# Altium schematic symbol library Interface_USB.SchLib: 132 symbols (part 2 of 2)
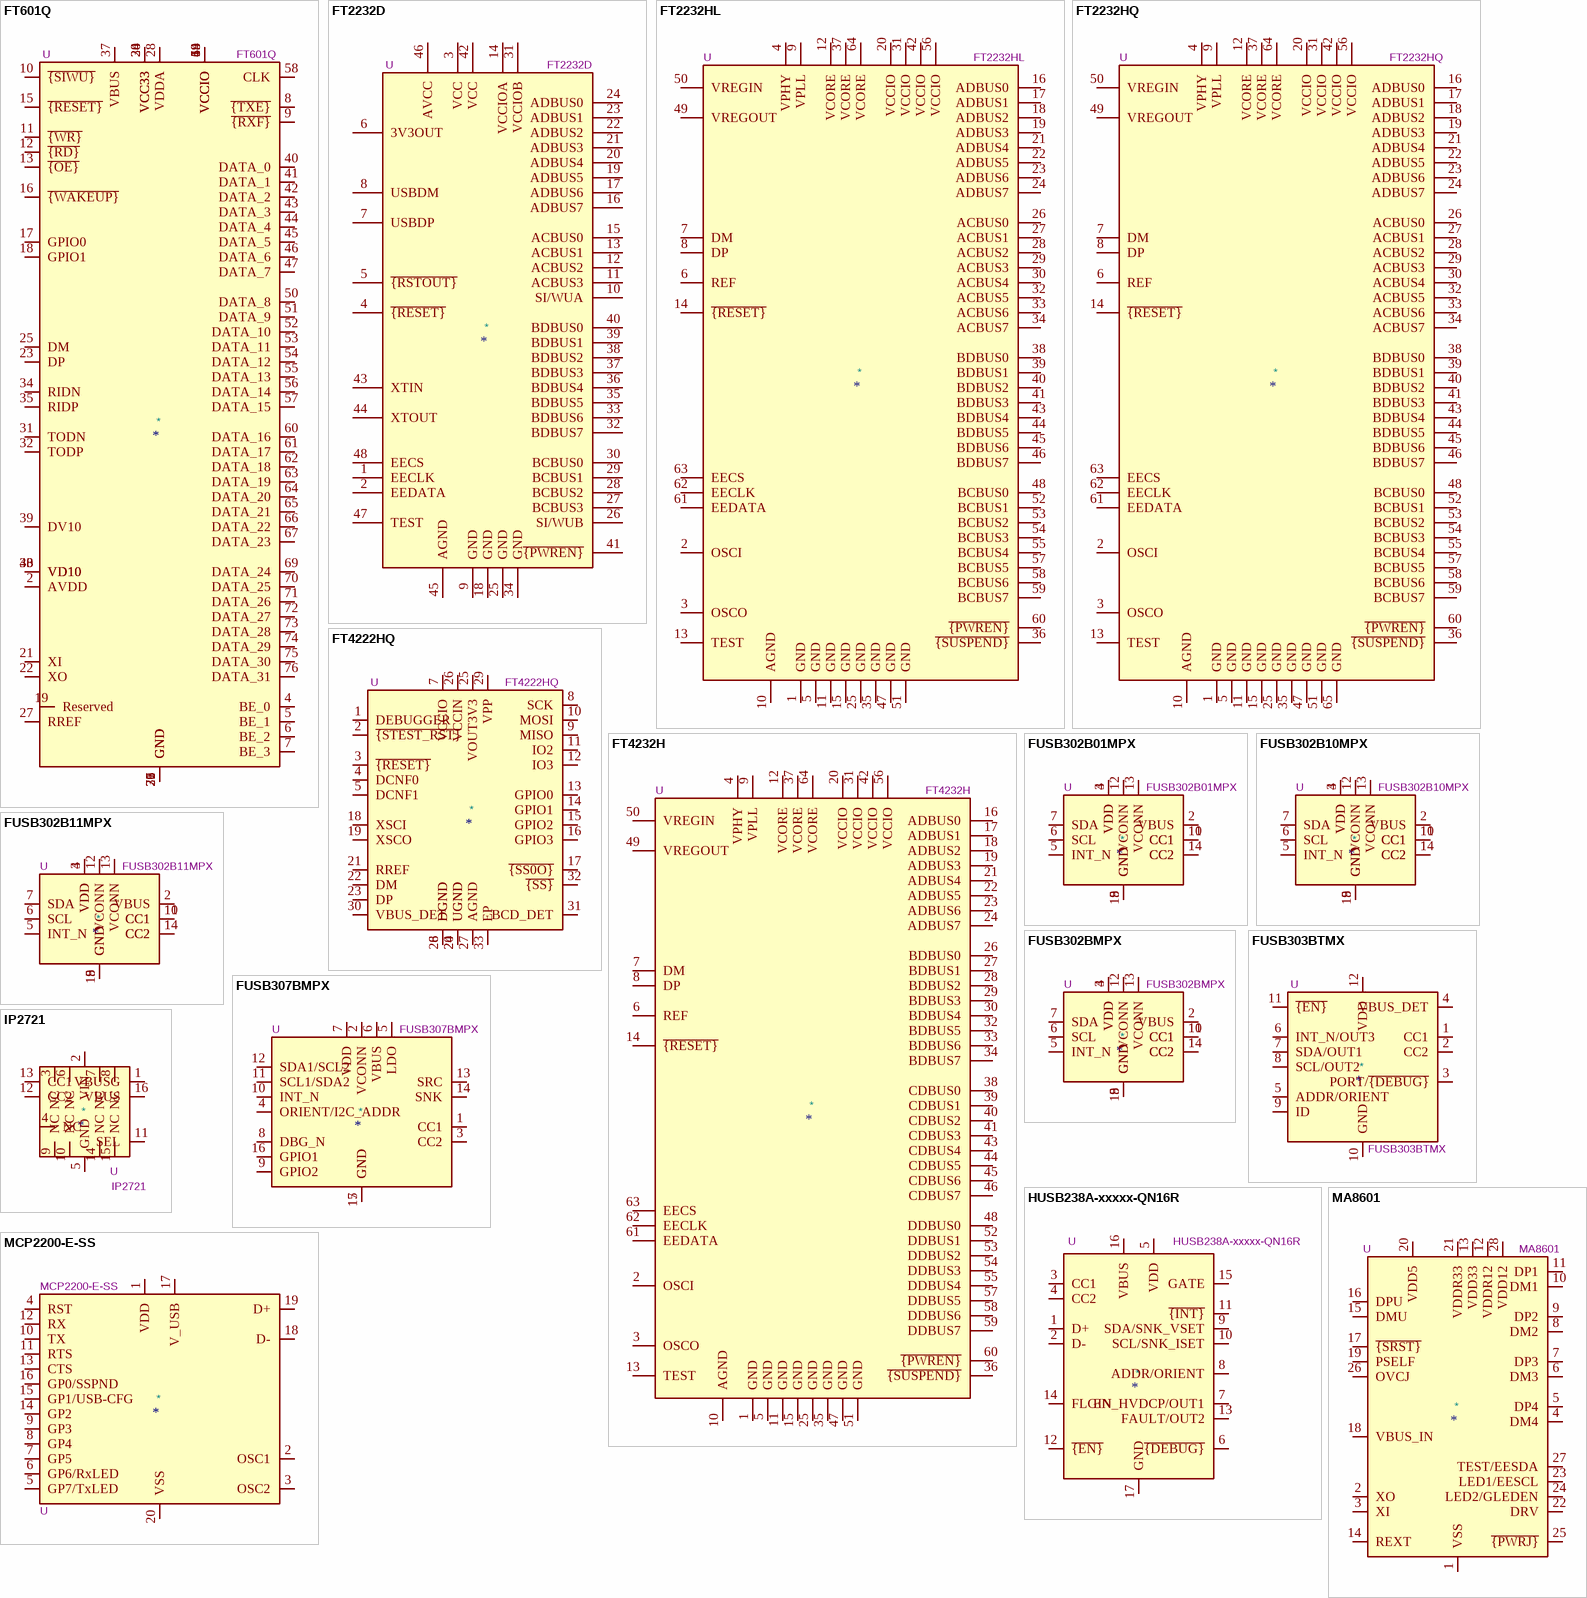
[diagram p8: symbols FT601Q to MCP2200-E-SS]

## IP2721
designator *  value IP2721  Reference: U
USB TYPEC  PD Controller Interface, TSSOP-16; ki_fp_filters: TSSOP*16*4.4x5mm*P0.65mm*; Footprint: Package_SO:TSSOP-16_4.4x5mm_P0.65mm; Datasheet: https://datasheet.lcsc.com/lcsc/2006111335_INJOINIC-IP2721_C603176.pdf; Description_: USB TYPEC  PD Controller Interface, TSSOP-16; ki_keywords: USB TYPEC PD
pins: 1 VBUSG, 2 VIN, 3 NC, 4 NC, 5 GND, 6 NC, 7 NC, 8 NC, 9 NC, 10 NC, 11 SEL, 12 CC2, 13 CC1, 14 NC, 15 NC, 16 VBUS

## MA8601
designator *  value MA8601  Reference: U
USB 2.0 High Speed 4-Port Hub Controller, SSOP-28; ki_keywords: 4-Port, EEPROM, High Speed, Hub, USB2.0; ki_fp_filters: SSOP*3.9x9.9mm*P0.635mm*; Footprint: Package_SO:SSOP-28_3.9x9.9mm_P0.635mm; Datasheet: https://datasheetspdf.com/pdf-file/1312067/Prolific/MA8601/1; Description_: USB 2.0 High Speed 4-Port Hub Controller, SSOP-28
pins: 1 VSS, 2 XO, 3 XI, 4 DM4, 5 DP4, 6 DM3, 7 DP3, 8 DM2, 9 DP2, 10 DM1, 11 DP1, 12 VDDR12, 13 VDD33, 14 REXT, 15 DMU, 16 DPU, 17 ~{{SRST}}, 18 VBUS_IN, 19 PSELF, 20 VDD5, 21 VDDR33, 22 DRV, 23 LED1/EESCL, 24 LED2/GLEDEN, 25 ~{{PWRJ}}, 26 OVCJ, 27 TEST/EESDA, 28 VDD12

## MCP2200-E-SS
designator *  value MCP2200-E-SS  Reference: U
USB 2.0 to UART Protocol Converter with GPIO, Extended Temperature Range, SSOP-20; ki_keywords: USB UART Converter; ki_fp_filters: SSOP*20*5.3x7.2mm*P0.65mm*; Footprint: Package_SO:SSOP-20_5.3x7.2mm_P0.65mm; Datasheet: http://ww1.microchip.com/downloads/en/DeviceDoc/200022228D.pdf; Description_: USB 2.0 to UART Protocol Converter with GPIO, Extended Temperature Range, SSOP-20
pins: 1 VDD, 2 OSC1, 3 OSC2, 4 RST, 5 GP7/TxLED, 6 GP6/RxLED, 7 GP5, 8 GP4, 9 GP3, 10 TX, 11 RTS, 12 RX, 13 CTS, 14 GP2, 15 GP1/USB-CFG, 16 GP0/SSPND, 17 V_USB, 18 D-, 19 D+, 20 VSS

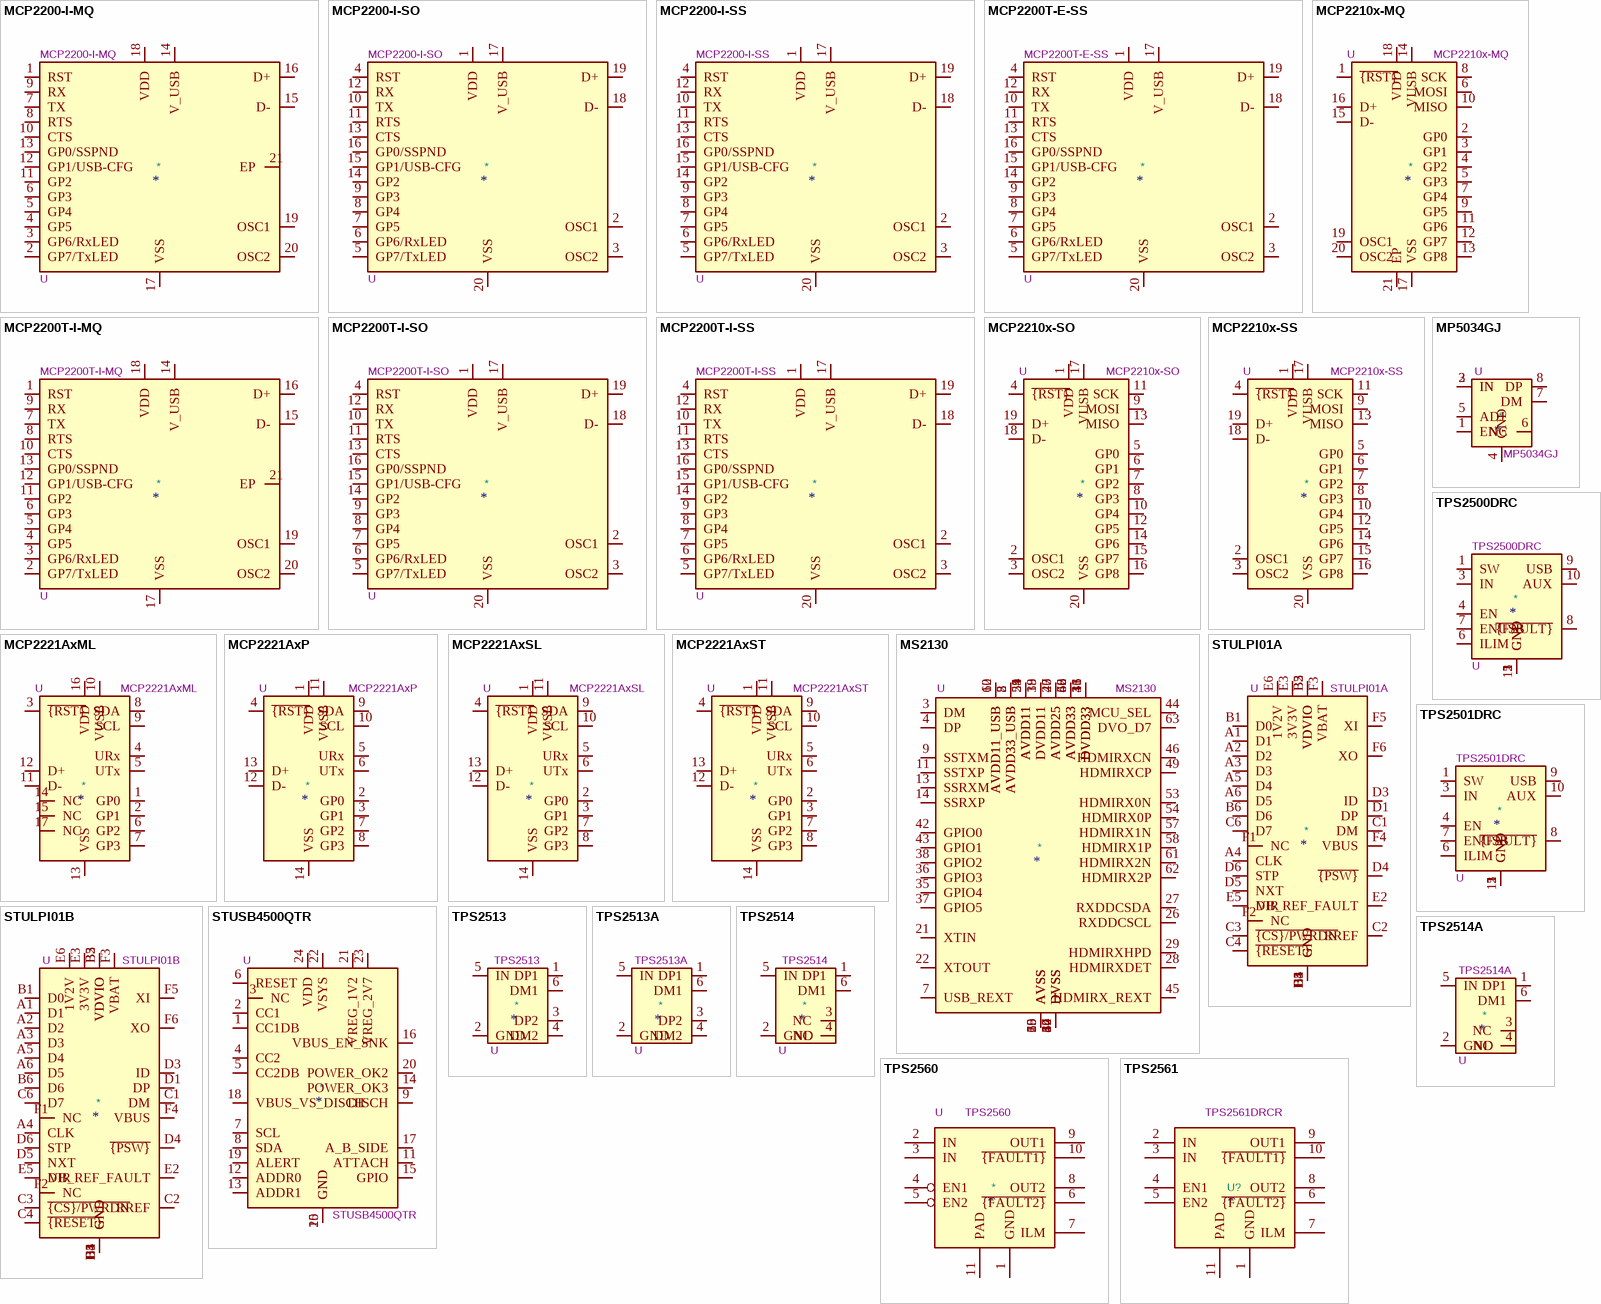
[diagram p4: symbols MCP2200-I-MQ to TPS2561]

## MCP2200-I-MQ
designator *  value MCP2200-I-MQ  Reference: U
USB 2.0 to UART Protocol Converter with GPIO, QFN-20; ki_keywords: USB UART Converter; ki_fp_filters: QFN*20*1EP*5x5mm*P0.65mm*; Footprint: Package_DFN_QFN:QFN-20-1EP_5x5mm_P0.65mm_EP3.35x3.35mm; Datasheet: http://ww1.microchip.com/downloads/en/DeviceDoc/200022228D.pdf; Description_: USB 2.0 to UART Protocol Converter with GPIO, QFN-20
pins: 1 RST, 2 GP7/TxLED, 3 GP6/RxLED, 4 GP5, 5 GP4, 6 GP3, 7 TX, 8 RTS, 9 RX, 10 CTS, 11 GP2, 12 GP1/USB-CFG, 13 GP0/SSPND, 14 V_USB, 15 D-, 16 D+, 17 VSS, 18 VDD, 19 OSC1, 20 OSC2, 21 EP

## MCP2200-I-SO
designator *  value MCP2200-I-SO  Reference: U
USB 2.0 to UART Protocol Converter with GPIO, SOIC-20; ki_keywords: USB UART Converter; ki_fp_filters: SOIC*20*7.5x12.8mm*P1.27mm*; Footprint: Package_SO:SOIC-20W_7.5x12.8mm_P1.27mm; Datasheet: http://ww1.microchip.com/downloads/en/DeviceDoc/200022228D.pdf; Description_: USB 2.0 to UART Protocol Converter with GPIO, SOIC-20
pins: 1 VDD, 2 OSC1, 3 OSC2, 4 RST, 5 GP7/TxLED, 6 GP6/RxLED, 7 GP5, 8 GP4, 9 GP3, 10 TX, 11 RTS, 12 RX, 13 CTS, 14 GP2, 15 GP1/USB-CFG, 16 GP0/SSPND, 17 V_USB, 18 D-, 19 D+, 20 VSS

## MCP2200-I-SS
designator *  value MCP2200-I-SS  Reference: U
USB 2.0 to UART Protocol Converter with GPIO, SSOP-20; ki_keywords: USB UART Converter; ki_fp_filters: SSOP*20*5.3x7.2mm*P0.65mm*; Footprint: Package_SO:SSOP-20_5.3x7.2mm_P0.65mm; Datasheet: http://ww1.microchip.com/downloads/en/DeviceDoc/200022228D.pdf; Description_: USB 2.0 to UART Protocol Converter with GPIO, SSOP-20
pins: 1 VDD, 2 OSC1, 3 OSC2, 4 RST, 5 GP7/TxLED, 6 GP6/RxLED, 7 GP5, 8 GP4, 9 GP3, 10 TX, 11 RTS, 12 RX, 13 CTS, 14 GP2, 15 GP1/USB-CFG, 16 GP0/SSPND, 17 V_USB, 18 D-, 19 D+, 20 VSS

## MCP2200T-E-SS
designator *  value MCP2200T-E-SS  Reference: U
USB 2.0 to UART Protocol Converter with GPIO, Extended Temperature Range, TnR, SSOP-20; ki_keywords: USB UART Converter; ki_fp_filters: SSOP*20*5.3x7.2mm*P0.65mm*; Footprint: Package_SO:SSOP-20_5.3x7.2mm_P0.65mm; Datasheet: http://ww1.microchip.com/downloads/en/DeviceDoc/200022228D.pdf; Description_: USB 2.0 to UART Protocol Converter with GPIO, Extended Temperature Range, TnR, SSOP-20
pins: 1 VDD, 2 OSC1, 3 OSC2, 4 RST, 5 GP7/TxLED, 6 GP6/RxLED, 7 GP5, 8 GP4, 9 GP3, 10 TX, 11 RTS, 12 RX, 13 CTS, 14 GP2, 15 GP1/USB-CFG, 16 GP0/SSPND, 17 V_USB, 18 D-, 19 D+, 20 VSS

## MCP2200T-I-MQ
designator *  value MCP2200T-I-MQ  Reference: U
USB 2.0 to UART Protocol Converter with GPIO, TnR, QFN-20; ki_keywords: USB UART Converter; ki_fp_filters: QFN*20*1EP*5x5mm*P0.65mm*; Footprint: Package_DFN_QFN:QFN-20-1EP_5x5mm_P0.65mm_EP3.35x3.35mm; Datasheet: http://ww1.microchip.com/downloads/en/DeviceDoc/200022228D.pdf; Description_: USB 2.0 to UART Protocol Converter with GPIO, TnR, QFN-20
pins: 1 RST, 2 GP7/TxLED, 3 GP6/RxLED, 4 GP5, 5 GP4, 6 GP3, 7 TX, 8 RTS, 9 RX, 10 CTS, 11 GP2, 12 GP1/USB-CFG, 13 GP0/SSPND, 14 V_USB, 15 D-, 16 D+, 17 VSS, 18 VDD, 19 OSC1, 20 OSC2, 21 EP

## MCP2200T-I-SO
designator *  value MCP2200T-I-SO  Reference: U
USB 2.0 to UART Protocol Converter with GPIO,TnR,SOIC; ki_keywords: USB UART Converter; ki_fp_filters: SOIC*20*7.5x12.8mm*P1.27mm*; Footprint: Package_SO:SOIC-20W_7.5x12.8mm_P1.27mm; Datasheet: http://ww1.microchip.com/downloads/en/DeviceDoc/200022228D.pdf; Description_: USB 2.0 to UART Protocol Converter with GPIO,TnR,SOIC
pins: 1 VDD, 2 OSC1, 3 OSC2, 4 RST, 5 GP7/TxLED, 6 GP6/RxLED, 7 GP5, 8 GP4, 9 GP3, 10 TX, 11 RTS, 12 RX, 13 CTS, 14 GP2, 15 GP1/USB-CFG, 16 GP0/SSPND, 17 V_USB, 18 D-, 19 D+, 20 VSS

## MCP2200T-I-SS
designator *  value MCP2200T-I-SS  Reference: U
USB 2.0 to UART Protocol Converter with GPIO, TnR, SSOP-20; ki_keywords: USB UART Converter; ki_fp_filters: SSOP*20*5.3x7.2mm*P0.65mm*; Footprint: Package_SO:SSOP-20_5.3x7.2mm_P0.65mm; Datasheet: http://ww1.microchip.com/downloads/en/DeviceDoc/200022228D.pdf; Description_: USB 2.0 to UART Protocol Converter with GPIO, TnR, SSOP-20
pins: 1 VDD, 2 OSC1, 3 OSC2, 4 RST, 5 GP7/TxLED, 6 GP6/RxLED, 7 GP5, 8 GP4, 9 GP3, 10 TX, 11 RTS, 12 RX, 13 CTS, 14 GP2, 15 GP1/USB-CFG, 16 GP0/SSPND, 17 V_USB, 18 D-, 19 D+, 20 VSS

## MCP2210x-MQ
designator *  value MCP2210x-MQ  Reference: U
USB to SPI Protocol Converter with GPIO, QFN-20; ki_keywords: USB SPI Master Converter Bridge; ki_fp_filters: QFN*1EP*5x5mm*P0.65mm*; Footprint: Package_DFN_QFN:QFN-20-1EP_5x5mm_P0.65mm_EP3.35x3.35mm; Datasheet: https://ww1.microchip.com/downloads/en/DeviceDoc/22288A.pdf; Description_: USB to SPI Protocol Converter with GPIO, QFN-20
pins: 1 ~{{RST}}, 2 GP0, 3 GP1, 4 GP2, 5 GP3, 6 MOSI, 7 GP4, 8 SCK, 9 GP5, 10 MISO, 11 GP6, 12 GP7, 13 GP8, 14 VUSB, 15 D-, 16 D+, 17 VSS, 18 VDD, 19 OSC1, 20 OSC2, 21 EP

## MCP2210x-SO
designator *  value MCP2210x-SO  Reference: U
USB to SPI Protocol Converter with GPIO, SOIC-20; ki_keywords: USB SPI Master Converter Bridge; ki_fp_filters: SOIC*7.5x12.8mm*P1.27mm*; Footprint: Package_SO:SOIC-20W_7.5x12.8mm_P1.27mm; Datasheet: https://ww1.microchip.com/downloads/en/DeviceDoc/22288A.pdf; Description_: USB to SPI Protocol Converter with GPIO, SOIC-20
pins: 1 VDD, 2 OSC1, 3 OSC2, 4 ~{{RST}}, 5 GP0, 6 GP1, 7 GP2, 8 GP3, 9 MOSI, 10 GP4, 11 SCK, 12 GP5, 13 MISO, 14 GP6, 15 GP7, 16 GP8, 17 VUSB, 18 D-, 19 D+, 20 VSS

## MCP2210x-SS
designator *  value MCP2210x-SS  Reference: U
USB to SPI Protocol Converter with GPIO, SSOP-20; ki_keywords: USB SPI Master Converter Bridge; ki_fp_filters: SSOP*5.3x7.2mm*P0.65mm*; Footprint: Package_SO:SSOP-20_5.3x7.2mm_P0.65mm; Datasheet: https://ww1.microchip.com/downloads/en/DeviceDoc/22288A.pdf; Description_: USB to SPI Protocol Converter with GPIO, SSOP-20
pins: 1 VDD, 2 OSC1, 3 OSC2, 4 ~{{RST}}, 5 GP0, 6 GP1, 7 GP2, 8 GP3, 9 MOSI, 10 GP4, 11 SCK, 12 GP5, 13 MISO, 14 GP6, 15 GP7, 16 GP8, 17 VUSB, 18 D-, 19 D+, 20 VSS

## MCP2221AxML
designator *  value MCP2221AxML  Reference: U
USB to I2C/UART Protocol Converter with GPIO, QFN-16; ki_keywords: USB I2C UART Converter Bridge; ki_fp_filters: QFN*1EP*4x4mm*P0.65mm*; Footprint: Package_DFN_QFN:QFN-16-1EP_4x4mm_P0.65mm_EP2.5x2.5mm; Datasheet: http://ww1.microchip.com/downloads/en/DeviceDoc/20005565B.pdf; Description_: USB to I2C/UART Protocol Converter with GPIO, QFN-16
pins: 1 GP0, 2 GP1, 3 ~{{RST}}, 4 URx, 5 UTx, 6 GP2, 7 GP3, 8 SDA, 9 SCL, 10 VUSB, 11 D-, 12 D+, 13 VSS, 14 NC, 15 NC, 16 VDD, 17 NC

## MCP2221AxP
designator *  value MCP2221AxP  Reference: U
USB to I2C/UART Protocol Converter with GPIO, DIP-14; ki_keywords: USB I2C UART Converter Bridge; ki_fp_filters: DIP*W7.62mm*; Footprint: Package_DIP:DIP-14_W7.62mm; Datasheet: http://ww1.microchip.com/downloads/en/DeviceDoc/20005565B.pdf; Description_: USB to I2C/UART Protocol Converter with GPIO, DIP-14
pins: 1 VDD, 2 GP0, 3 GP1, 4 ~{{RST}}, 5 URx, 6 UTx, 7 GP2, 8 GP3, 9 SDA, 10 SCL, 11 VUSB, 12 D-, 13 D+, 14 VSS

## MCP2221AxSL
designator *  value MCP2221AxSL  Reference: U
USB to I2C/UART Protocol Converter with GPIO, SOIC-14; ki_keywords: USB I2C UART Converter Bridge; ki_fp_filters: SOIC*3.9x8.7mm*P1.27mm*; Footprint: Package_SO:SOIC-14_3.9x8.7mm_P1.27mm; Datasheet: http://ww1.microchip.com/downloads/en/DeviceDoc/20005565B.pdf; Description_: USB to I2C/UART Protocol Converter with GPIO, SOIC-14
pins: 1 VDD, 2 GP0, 3 GP1, 4 ~{{RST}}, 5 URx, 6 UTx, 7 GP2, 8 GP3, 9 SDA, 10 SCL, 11 VUSB, 12 D-, 13 D+, 14 VSS

## MCP2221AxST
designator *  value MCP2221AxST  Reference: U
USB to I2C/UART Protocol Converter with GPIO, TSSOP-14; ki_keywords: USB I2C UART Converter Bridge; ki_fp_filters: TSSOP*4.4x5mm*P0.65mm*; Footprint: Package_SO:TSSOP-14_4.4x5mm_P0.65mm; Datasheet: http://ww1.microchip.com/downloads/en/DeviceDoc/20005565B.pdf; Description_: USB to I2C/UART Protocol Converter with GPIO, TSSOP-14
pins: 1 VDD, 2 GP0, 3 GP1, 4 ~{{RST}}, 5 URx, 6 UTx, 7 GP2, 8 GP3, 9 SDA, 10 SCL, 11 VUSB, 12 D-, 13 D+, 14 VSS

## MP5034GJ
designator *  value MP5034GJ  Reference: U
USB charging port controller integrating QC 2.0/3.0 anc BC1.2 Protocol, TSOT-23-8; ki_keywords: USB Quick Charge; ki_fp_filters: TSOT?23*; Footprint: Package_TO_SOT_SMD:TSOT-23-8; Datasheet: https://www.monolithicpower.com/en/documentview/productdocument/index/version/2/document_type/Datasheet/lang/en/sku/MP5034/; Description_: USB charging port controller integrating QC 2.0/3.0 anc BC1.2 Protocol, TSOT-23-8
pins: 1 EN, 2 IN, 3 IN, 4 GND, 5 ADJ, 6 NC, 7 DM, 8 DP

## MS2130
designator *  value MS2130  Reference: U
USB 3.0 HD Video Capture Chip, 24 MHz external clock, VQFN-64; ki_keywords: HDMI-1.4b DVI-1.0 HDCP-1.4 I2C SPI UART; ki_fp_filters: *QFN*64*9x9mm*P0.5mm*EP5.7*x5.7*mm*; Footprint: Package_DFN_QFN:QFN-64-1EP_9x9mm_P0.5mm_EP5.7x5.7mm; Datasheet: https://gitlab.com/-/project/21610360/uploads/2311ee0b871d17f79670064b4b2f55bb/MS2130-MacroSilicon_KL-014-0010911.pdf; Description_: USB 3.0 HD Video Capture Chip, 24 MHz external clock, VQFN-64
pins: 1 DVDD33, 2 AVDD33_USB, 3 DM, 4 DP, 5 AVDD33_USB, 6 AVDD11_USB, 7 USB_REXT, 8 AVDD33_USB, 9 SSTXM, 10 AVDD11_USB, 11 SSTXP, 12 AVDD11_USB, 13 SSRXM, 14 SSRXP, 15 AVSS, 16 DVDD33, 17 DVSS, 18 DVDD11, 19 AVSS, 20 AVDD25, 21 XTIN, 22 XTOUT, 23 AVDD25, 24 AVDD11, 25 AVSS, 26 RXDDCSCL, 27 RXDDCSDA, 28 HDMIRXDET, 29 HDMIRXHPD, 30 DVSS, 31 DVDD33, 32 DVSS, 33 DVDD33, 34 DVSS, 35 GPIO4, 36 GPIO3, 37 GPIO5, 38 GPIO2, 39 DVDD11, 40 DVSS, 41 DVDD33, 42 GPIO0, 43 GPIO1, 44 MCU_SEL, 45 HDMIRX_REXT, 46 HDMIRXCN, 47 AVDD25, 48 AVDD33, 49 HDMIRXCP, 50 AVSS, 51 AVDD11, 52 AVDD33, 53 HDMIRX0N, 54 HDMIRX0P, 55 AVDD11, 56 AVDD33, 57 HDMIRX1N, 58 HDMIRX1P, 59 AVDD11, 60 AVDD33, 61 HDMIRX2N, 62 HDMIRX2P, 63 DVO_D7, 64 DVSS, 65 AVSS

## STULPI01A
designator *  value STULPI01A  Reference: U
High-speed USB On-The-Go ULPI transceiver; ki_keywords: USB OTG HS PHY ULPI Interface; ki_fp_filters: ST*uTFBGA*3.6x3.6mm*Layout6x6*P0.5mm*; Footprint: Package_BGA:ST_uTFBGA-36_3.6x3.6mm_Layout6x6_P0.5mm; Datasheet: https://www.st.com/resource/en/datasheet/stulpi01a.pdf; Description_: High-speed USB On-The-Go ULPI transceiver
pins: A1 D1, A2 D2, A3 D3, A4 CLK, A5 D4, A6 D5, B1 D0, B2 VDVIO, B3 VDVIO, B4 GND, B5 VDVIO, B6 D6, C1 DM, C2 RREF, C3 ~{{CS}/PWRDN}, C4 ~{{RESET}}, C5 GND, C6 D7, D1 DP, D2 GND, D3 ID, D4 ~{{PSW}}, D5 NXT, D6 STP, E1 GND, E2 VB_REF_FAULT, E3 3V3V, E4 GND, E5 DIR, E6 1V2V, F1 NC, F2 NC, F3 VBAT, F4 VBUS, F5 XI, F6 XO

## STULPI01B
designator *  value STULPI01B  Reference: U
High-speed USB On-The-Go ULPI transceiver; ki_keywords: USB OTG HS PHY ULPI Interface; ki_fp_filters: ST*uTFBGA*3.6x3.6mm*Layout6x6*P0.5mm*; Footprint: Package_BGA:ST_uTFBGA-36_3.6x3.6mm_Layout6x6_P0.5mm; Datasheet: https://www.st.com/resource/en/datasheet/stulpi01b.pdf; Description_: High-speed USB On-The-Go ULPI transceiver
pins: A1 D1, A2 D2, A3 D3, A4 CLK, A5 D4, A6 D5, B1 D0, B2 VDVIO, B3 VDVIO, B4 GND, B5 VDVIO, B6 D6, C1 DM, C2 RREF, C3 ~{{CS}/PWRDN}, C4 ~{{RESET}}, C5 GND, C6 D7, D1 DP, D2 GND, D3 ID, D4 ~{{PSW}}, D5 NXT, D6 STP, E1 GND, E2 VB_REF_FAULT, E3 3V3V, E4 GND, E5 DIR, E6 1V2V, F1 NC, F2 NC, F3 VBAT, F4 VBUS, F5 XI, F6 XO

## STUSB4500QTR
designator *  value STUSB4500QTR  Reference: U
Stand-alone USB PD controller (with sink Auto-run mode), QFN-24; ki_keywords: USB PD Type C Sink; ki_fp_filters: QFN*4x4mm*P0.5mm*; Footprint: Package_DFN_QFN:QFN-24-1EP_4x4mm_P0.5mm_EP2.7x2.7mm; Datasheet: https://www.st.com/resource/en/datasheet/stusb4500.pdf; Description_: Stand-alone USB PD controller (with sink Auto-run mode), QFN-24
pins: 1 CC1DB, 2 CC1, 3 NC, 4 CC2, 5 CC2DB, 6 RESET, 7 SCL, 8 SDA, 9 DISCH, 10 GND, 11 ATTACH, 12 ADDR0, 13 ADDR1, 14 POWER_OK3, 15 GPIO, 16 VBUS_EN_SNK, 17 A_B_SIDE, 18 VBUS_VS_DISCH, 19 ALERT, 20 POWER_OK2, 21 VREG_1V2, 22 VSYS, 23 VREG_2V7, 24 VDD, 25 GND

## TPS2500DRC
designator *  value TPS2500DRC  Reference: U
Integrated USB power Switch with Boost Converter, High-Efficiency Eco-mode Control Scheme, Texas S-PVSON-10; ki_keywords: USB switch boost; ki_fp_filters: Texas*S*PVSON*N10*; Footprint: Package_SON:Texas_S-PVSON-N10; Datasheet: http://www.ti.com/lit/ds/symlink/tps2500.pdf; Description_: Integrated USB power Switch with Boost Converter, High-Efficiency Eco-mode Control Scheme, Texas S-PVSON-10
pins: 1 SW, 2 GND, 3 IN, 4 EN, 5 GND, 6 ILIM, 7 ENUSB, 8 ~{{FAULT}}, 9 USB, 10 AUX, 11 GND

## TPS2501DRC
designator *  value TPS2501DRC  Reference: U
Integrated USB power Switch with Boost Converter, Constant Frequency, Texas S-PVSON-10; ki_keywords: USB switch boost; ki_fp_filters: Texas*S*PVSON*N10*; Footprint: Package_SON:Texas_S-PVSON-N10; Datasheet: http://www.ti.com/lit/ds/symlink/tps2500.pdf; Description_: Integrated USB power Switch with Boost Converter, Constant Frequency, Texas S-PVSON-10
pins: 1 SW, 2 GND, 3 IN, 4 EN, 5 GND, 6 ILIM, 7 ENUSB, 8 ~{{FAULT}}, 9 USB, 10 AUX, 11 GND

## TPS2513
designator *  value TPS2513  Reference: U
USB Dedicated Charging Port Controller; ki_keywords: USB Charge; ki_fp_filters: SOT?23*; Footprint: Package_TO_SOT_SMD:SOT-23-6; Datasheet: http://www.ti.com/lit/ds/symlink/tps2513.pdf; Description_: USB Dedicated Charging Port Controller
pins: 1 DP1, 2 GND, 3 DP2, 4 DM2, 5 IN, 6 DM1

## TPS2513A
designator *  value TPS2513A  Reference: U
USB Dedicated Charging Port Controller; ki_keywords: USB Charge; ki_fp_filters: SOT?23*; Footprint: Package_TO_SOT_SMD:SOT-23-6; Datasheet: http://www.ti.com/lit/ds/symlink/tps2513.pdf; Description_: USB Dedicated Charging Port Controller
pins: 1 DP1, 2 GND, 3 DP2, 4 DM2, 5 IN, 6 DM1

## TPS2514
designator *  value TPS2514  Reference: U
USB Dedicated Charging Port Controller; ki_keywords: USB Charge; ki_fp_filters: SOT?23*; Footprint: Package_TO_SOT_SMD:SOT-23-6; Datasheet: http://www.ti.com/lit/ds/symlink/tps2513.pdf; Description_: USB Dedicated Charging Port Controller
pins: 1 DP1, 2 GND, 3 NC, 4 NC, 5 IN, 6 DM1

## TPS2514A
designator *  value TPS2514A  Reference: U
USB Dedicated Charging Port Controller; ki_keywords: USB Charge; ki_fp_filters: SOT?23*; Footprint: Package_TO_SOT_SMD:SOT-23-6; Datasheet: http://www.ti.com/lit/ds/symlink/tps2513.pdf; Description_: USB Dedicated Charging Port Controller
pins: 1 DP1, 2 GND, 3 NC, 4 NC, 5 IN, 6 DM1

## TPS2560
designator *  value TPS2560  Reference: U
Dual channel precision adjustable current-limited power switches; ki_keywords: power switche current limited usb port; ki_fp_filters: VSON*3x3mm*P0.5mm*; Footprint: Package_SON:VSON-10-1EP_3x3mm_P0.5mm_EP1.65x2.4mm_ThermalVias; Datasheet: http://www.ti.com/lit/ds/symlink/tps2560.pdf; Description_: Dual channel precision adjustable current-limited power switches
pins: 1 GND, 2 IN, 3 IN, 4 EN1, 5 EN2, 6 ~{{FAULT2}}, 7 ILM, 8 OUT2, 9 OUT1, 10 ~{{FAULT1}}, 11 PAD

## TPS2561
designator U?  value TPS2561DRCR
Dual channel precision adjustable current-limited power switches; Manufacturer: Texas Instruments; Manufacturer Lifecycle Status: ACTIVE; ki_keywords: power switche current limited usb port; ki_fp_filters: VSON*3x3mm*P0.5mm*; Reference: U; Fault Protection: Over Temperature; Interface: On/Off; Max Supply Voltage: 6.5V; Max Supply Current: 125µA; Min Input Voltage: 2.5V; Nominal Supply Current: 500nA; Number of Outputs: 2; Output Configuration: High Side; Output Current: 2.5A; Turn-Off Delay Time: 6ms; Turn-On Delay Time: 9ms; Footprint: Package_SON:VSON-10-1EP_3x3mm_P0.5mm_EP1.65x2.4mm_ThermalVias; Datasheet: http://www.ti.com/lit/ds/symlink/tps2561.pdf; Description_: Dual channel precision adjustable current-limited power switches; Category: Power Switch ICs - Power Distribution; Height: 1mm; Lead Free: Lead Free; Length: 3mm; Lifecycle Status: Production; Manufacturer Part Number: TPS2561DRCR; Max Operating Temperature: 85°C; Min Operating Temperature: -40°C; Min Supply Voltage: 2.5V; Nominal Supply Voltage: 6.5V; Pins: 10; Packaging: Cut Tape; Radiation Hardening: No; REACH SVHC: No; RoHS: Compliant; Schedule B: 8542390000, 8542390000|8542390000|8542390000|8542390000|8542390000|8542390000|8542390000|8542390000|8542390000|8542390000|8542390000|8542390000|8542390000|8542390000|8542390000|8542390000|8542390000|8542390000|8542390000|8542390000|8542390000|8542390000|8542390000|85; Thickness: 900µm; Type: General Purpose; Width: 3mm; Supplier 1: Mouser; Supplier Part Number 1: 595-TPS2561DRCR; Supplier Packaging 1: Tape & Reel; Supplier Unit Price 1: $1.42; Supplier Location 1: US; DNP: *
footprint VSON-10-1EP_3x3mm_P0.5mm_EP1.65x2.4mm_ThermalVias
pins: 1 GND, 2 IN, 3 IN, 4 EN1, 5 EN2, 6 ~{{FAULT2}}, 7 ILM, 8 OUT2, 9 OUT1, 10 ~{{FAULT1}}, 11 PAD

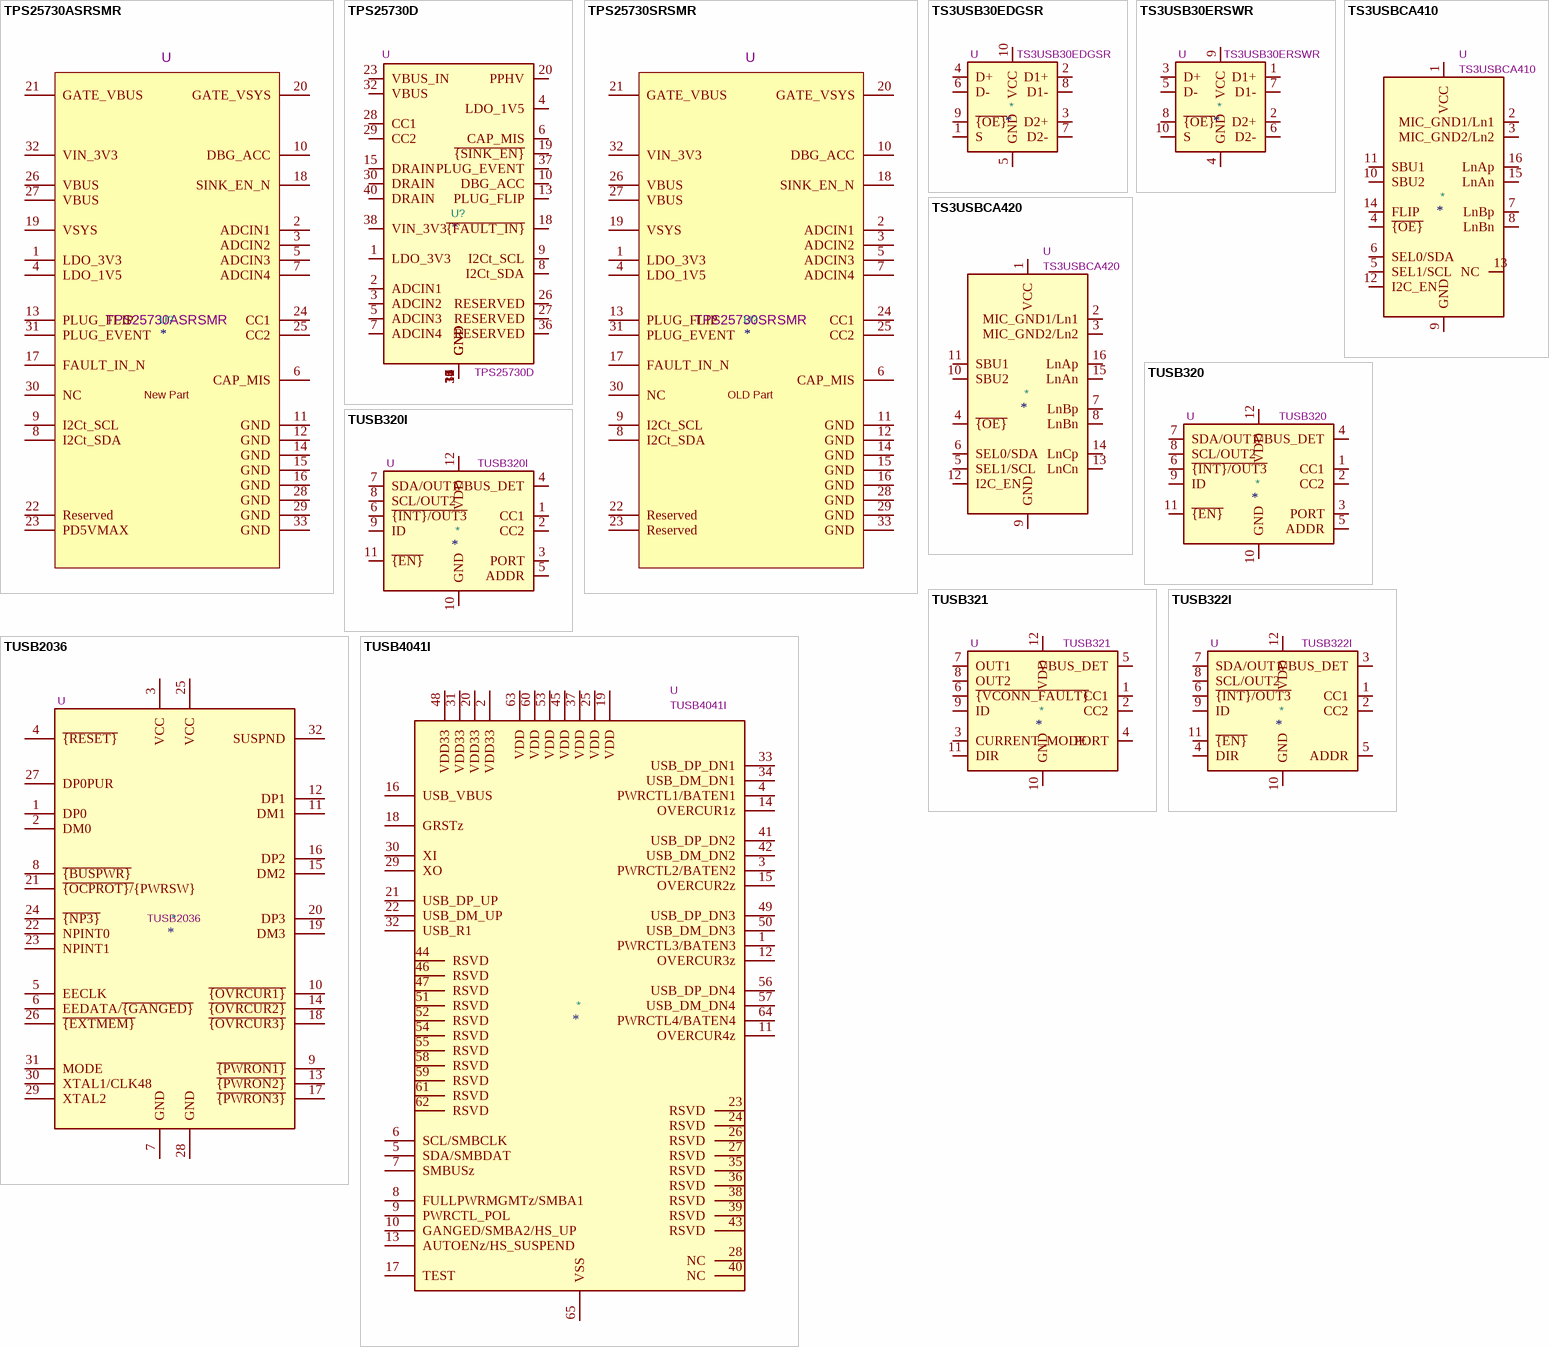
[diagram p5: symbols TPS25730ASRSMR to TUSB4041I]

## TPS25730ASRSMR
designator U?  value TPS25730ASRSMR  Reference: U
USB Type-C and USB PD Controller, External Power Switches, QFN-32; Manufacturer: Texas Instruments; Manufacturer Lifecycle Status: ACTIVE; ki_keywords: USB CC PD; ki_fp_filters: RSM0032B-IPC_A RSM0032B-IPC_B RSM0032B-IPC_C RSM0032B-MFG; Footprint: RSM0032B-IPC_A; Datasheet: https://www.ti.com/lit/gpn/tps25730; Description_: USB Type-C and USB PD Controller, External Power Switches, QFN-32; Case/Package: VQFN; Category: USB Interface ICs; Height: 1mm; Length: 4mm; Lifecycle Status: Production; Manufacturer Part Number: TPS25730ASRSMR; Number of Pins: 32; RoHS: Compliant; Thickness: 900µm; Width: 4mm; Supplier 1: Mouser; Supplier Part Number 1: 595-TPS25730ASRSMR; Supplier Packaging 1: Tape & Reel; Supplier Unit Price 1: $2.53; Supplier Location 1: US
footprint Texas_REF0032A_VQFN-32-1EP_4x4mm_P0.4
pins: 1 LDO_3V3, 2 ADCIN1, 3 ADCIN2, 4 LDO_1V5, 5 ADCIN3, 6 CAP_MIS, 7 ADCIN4, 8 I2Ct_SDA, 9 I2Ct_SCL, 10 DBG_ACC, 11 GND, 12 GND, 13 PLUG_FLIP, 14 GND, 15 GND, 16 GND, 17 FAULT_IN_N, 18 SINK_EN_N, 19 VSYS, 20 GATE_VSYS, 21 GATE_VBUS, 22 Reserved, 23 PD5VMAX, 24 CC1, 25 CC2, 26 VBUS, 27 VBUS, 28 GND, 29 GND, 30 NC, 31 PLUG_EVENT, 32 VIN_3V3, 33 GND
text: New Part

## TPS25730D
designator U?  value TPS25730D  Reference: U
USB Type-C and USB PD Controller, Integrated Power Switches, QFN-38; Manufacturer: Texas Instruments; Manufacturer Lifecycle Status: ACTIVE; Manufacturer Part Number: TPS25730DREFR; ki_keywords: USB CC PD; ki_fp_filters: Texas*REF0038A*WQFN*38*; Footprint: Package_DFN_QFN:Texas_REF0038A_WQFN-38-2EP_6x4mm_P0.4; Datasheet: https://www.ti.com/lit/ds/symlink/tps25730.pdf; Description_: USB Type-C and USB PD Controller, Integrated Power Switches, QFN-38; Category: USB Interface ICs; Height: 0m; Length: 6mm; Lifecycle Status: Production; Number of Pins: 38; RoHS: Compliant; Thickness: 750µm; Width: 4mm; Supplier 1: Mouser; Supplier Part Number 1: 595-TPS25730DREFR; Supplier Unit Price 1: $2.80; Supplier Location 1: US
footprint Texas_REF0038A_WQFN-38-2EP_6x4mm_P0.4
pins: 1 LDO_3V3, 2 ADCIN1, 3 ADCIN2, 4 LDO_1V5, 5 ADCIN3, 6 CAP_MIS, 7 ADCIN4, 8 I2Ct_SDA, 9 I2Ct_SCL, 10 DBG_ACC, 11 GND, 12 GND, 13 PLUG_FLIP, 14 GND, 15 DRAIN, 16 GND, 17 GND, 18 ~{{FAULT_IN}}, 19 ~{{SINK_EN}}, 20 PPHV, 23 VBUS_IN, 26 RESERVED, 27 RESERVED, 28 CC1, 29 CC2, 30 DRAIN, 31 GND, 32 VBUS, 34 GND, 36 RESERVED, 37 PLUG_EVENT, 38 VIN_3V3, 39 GND, 40 DRAIN

## TPS25730SRSMR
designator U?  value TPS25730SRSMR  Reference: U
USB Type-C and USB PD Controller, External Power Switches, QFN-32; ki_keywords: USB CC PD; ki_fp_filters: RSM0032B-IPC_A RSM0032B-IPC_B RSM0032B-IPC_C RSM0032B-MFG; Footprint: RSM0032B-IPC_A; Datasheet: https://www.ti.com/lit/gpn/tps25730; Description_: USB Type-C and USB PD Controller, External Power Switches, QFN-32
footprint Texas_REF0032A_VQFN-32-1EP_4x4mm_P0.4
pins: 1 LDO_3V3, 2 ADCIN1, 3 ADCIN2, 4 LDO_1V5, 5 ADCIN3, 6 CAP_MIS, 7 ADCIN4, 8 I2Ct_SDA, 9 I2Ct_SCL, 10 DBG_ACC, 11 GND, 12 GND, 13 PLUG_FLIP, 14 GND, 15 GND, 16 GND, 17 FAULT_IN_N, 18 SINK_EN_N, 19 VSYS, 20 GATE_VSYS, 21 GATE_VBUS, 22 Reserved, 23 Reserved, 24 CC1, 25 CC2, 26 VBUS, 27 VBUS, 28 GND, 29 GND, 30 NC, 31 PLUG_EVENT, 32 VIN_3V3, 33 GND
text: OLD Part

## TS3USB30EDGSR
designator *  value TS3USB30EDGSR  Reference: U
ESD-Protected, High-Speed USB 2.0 (480-Mbps) 1:2 Multiplexer/Demultiplexer Switch With Single Enable, VSSOP-10; ki_keywords: usb mux; ki_fp_filters: VSSOP*3x3mm*P0.5mm*; Footprint: Package_SO:VSSOP-10_3x3mm_P0.5mm; Datasheet: https://www.ti.com/lit/ds/symlink/ts3usb30e.pdf; Description_: ESD-Protected, High-Speed USB 2.0 (480-Mbps) 1:2 Multiplexer/Demultiplexer Switch With Single Enable, VSSOP-10
pins: 1 S, 2 D1+, 3 D2+, 4 D+, 5 GND, 6 D-, 7 D2-, 8 D1-, 9 ~{{OE}}, 10 VCC

## TS3USB30ERSWR
designator *  value TS3USB30ERSWR  Reference: U
ESD-Protected, High-Speed USB 2.0 (480-Mbps) 1:2 Multiplexer/Demultiplexer Switch With Single Enable, UQFN-10; ki_keywords: usb mux; ki_fp_filters: UQFN*1.4x1.8mm*P0.4mm*; Footprint: Package_DFN_QFN:UQFN-10_1.4x1.8mm_P0.4mm; Datasheet: https://www.ti.com/lit/ds/symlink/ts3usb30e.pdf; Description_: ESD-Protected, High-Speed USB 2.0 (480-Mbps) 1:2 Multiplexer/Demultiplexer Switch With Single Enable, UQFN-10
pins: 1 D1+, 2 D2+, 3 D+, 4 GND, 5 D-, 6 D2-, 7 D1-, 8 ~{{OE}}, 9 VCC, 10 S

## TS3USBCA410
designator *  value TS3USBCA410  Reference: U
USB Type-C, SBU 3:1 multiplexer, 500MHz bandwidth, UQFN-16; ki_keywords: Texas usb-c mux i2c aux analog audio microphone uart debug; ki_fp_filters: UQFN*1.8x2.6mm*P0.4mm*; Footprint: Package_DFN_QFN:UQFN-16_1.8x2.6mm_P0.4mm; Datasheet: https://www.ti.com/lit/gpn/ts3usbca4; Description_: USB Type-C, SBU 3:1 multiplexer, 500MHz bandwidth, UQFN-16
pins: 1 VCC, 2 MIC_GND1/Ln1, 3 MIC_GND2/Ln2, 4 ~{{OE}}, 5 SEL1/SCL, 6 SEL0/SDA, 7 LnBp, 8 LnBn, 9 GND, 10 SBU2, 11 SBU1, 12 I2C_EN, 13 NC, 14 FLIP, 15 LnAn, 16 LnAp

## TS3USBCA420
designator *  value TS3USBCA420  Reference: U
USB Type-C, SBU 4:1 multiplexer, 500MHz bandwidth, UQFN-16; ki_keywords: Texas usb-c mux i2c aux analog audio microphone uart debug; ki_fp_filters: UQFN*1.8x2.6mm*P0.4mm*; Footprint: Package_DFN_QFN:UQFN-16_1.8x2.6mm_P0.4mm; Datasheet: https://www.ti.com/lit/gpn/ts3usbca4; Description_: USB Type-C, SBU 4:1 multiplexer, 500MHz bandwidth, UQFN-16
pins: 1 VCC, 2 MIC_GND1/Ln1, 3 MIC_GND2/Ln2, 4 ~{{OE}}, 5 SEL1/SCL, 6 SEL0/SDA, 7 LnBp, 8 LnBn, 9 GND, 10 SBU2, 11 SBU1, 12 I2C_EN, 13 LnCn, 14 LnCp, 15 LnAn, 16 LnAp

## TUSB320
designator *  value TUSB320  Reference: U
USB Type-C Configuration Channel Logic and Port Control, X2QFN-12; ki_keywords: USB PD CC; ki_fp_filters: Texas?X2QFN*1.6x1.6mm*P0.4mm*; Footprint: Package_DFN_QFN:Texas_X2QFN-12_1.6x1.6mm_P0.4mm; Datasheet: http://www.ti.com/lit/ds/symlink/tusb320.pdf; Description_: USB Type-C Configuration Channel Logic and Port Control, X2QFN-12
pins: 1 CC1, 2 CC2, 3 PORT, 4 VBUS_DET, 5 ADDR, 6 ~{{INT}/OUT3}, 7 SDA/OUT1, 8 SCL/OUT2, 9 ID, 10 GND, 11 ~{{EN}}, 12 VDD

## TUSB320I
designator *  value TUSB320I  Reference: U
USB Type-C Configuration Channel Logic and Port Control, industrial temperature range, X2QFN-12; ki_keywords: USB PD CC; ki_fp_filters: Texas?X2QFN*1.6x1.6mm*P0.4mm*; Footprint: Package_DFN_QFN:Texas_X2QFN-12_1.6x1.6mm_P0.4mm; Datasheet: http://www.ti.com/lit/ds/symlink/tusb320.pdf; Description_: USB Type-C Configuration Channel Logic and Port Control, industrial temperature range, X2QFN-12
pins: 1 CC1, 2 CC2, 3 PORT, 4 VBUS_DET, 5 ADDR, 6 ~{{INT}/OUT3}, 7 SDA/OUT1, 8 SCL/OUT2, 9 ID, 10 GND, 11 ~{{EN}}, 12 VDD

## TUSB321
designator *  value TUSB321  Reference: U
USB Type-C Configuration Channel Logic and Port Control with VCONN, X2QFN-12; ki_keywords: USB CC PD VCONN; ki_fp_filters: Texas?X2QFN*1.6x1.6mm*P0.4mm*; Footprint: Package_DFN_QFN:Texas_X2QFN-12_1.6x1.6mm_P0.4mm; Datasheet: http://www.ti.com/lit/ds/symlink/tusb321.pdf; Description_: USB Type-C Configuration Channel Logic and Port Control with VCONN, X2QFN-12
pins: 1 CC1, 2 CC2, 3 CURRENT_MODE, 4 PORT, 5 VBUS_DET, 6 ~{{VCONN_FAULT}}, 7 OUT1, 8 OUT2, 9 ID, 10 GND, 11 DIR, 12 VDD

## TUSB322I
designator *  value TUSB322I  Reference: U
USB Type-C Configuration Channel Logic and Port Control with VCONN, X2QFN-12; ki_keywords: USB VCONN PD CC; ki_fp_filters: Texas?X2QFN*1.6x1.6mm*P0.4mm*; Footprint: Package_DFN_QFN:Texas_X2QFN-12_1.6x1.6mm_P0.4mm; Datasheet: www.ti.com/lit/ds/symlink/tusb322i.pdf; Description_: USB Type-C Configuration Channel Logic and Port Control with VCONN, X2QFN-12
pins: 1 CC1, 2 CC2, 3 VBUS_DET, 4 DIR, 5 ADDR, 6 ~{{INT}/OUT3}, 7 SDA/OUT1, 8 SCL/OUT2, 9 ID, 10 GND, 11 ~{{EN}}, 12 VDD

## TUSB2036
designator *  value TUSB2036  Reference: U
2- or 3-Port USB1.1 HUB with optional serial EEPROM; ki_keywords: 2-Port, 3-Port, 3.3V, EEPROM, Full Speed, Hub, Texas Instruments, USB1.1; ki_fp_filters: LQFP*7x7mm*P0.8mm*; Footprint: Package_QFP:LQFP-32_7x7mm_P0.8mm; Datasheet: http://www.ti.com/lit/ds/symlink/tusb2036.pdf; Description_: 2- or 3-Port USB1.1 HUB with optional serial EEPROM
pins: 1 DP0, 2 DM0, 3 VCC, 4 ~{{RESET}}, 5 EECLK, 6 EEDATA/~{{GANGED}}, 7 GND, 8 ~{{BUSPWR}}, 9 ~{{PWRON1}}, 10 ~{{OVRCUR1}}, 11 DM1, 12 DP1, 13 ~{{PWRON2}}, 14 ~{{OVRCUR2}}, 15 DM2, 16 DP2, 17 ~{{PWRON3}}, 18 ~{{OVRCUR3}}, 19 DM3, 20 DP3, 21 ~{{OCPROT}/}{PWRSW}, 22 NPINT0, 23 NPINT1, 24 ~{{NP3}}, 25 VCC, 26 ~{{EXTMEM}}, 27 DP0PUR, 28 GND, 29 XTAL2, 30 XTAL1/CLK48, 31 MODE, 32 SUSPND

## TUSB4041I
designator *  value TUSB4041I  Reference: U
four port USB 2.0 Hub; ki_fp_filters: HTQFP*10x10mm*P0.5mm*; Footprint: Package_QFP:HTQFP-64-1EP_10x10mm_P0.5mm_EP8x8mm_Mask4.4x4.4mm_ThermalVias; Datasheet: http://www.ti.com/lit/ds/symlink/tusb4041i.pdf; Description_: four port USB 2.0 Hub; ki_keywords: USB2.0 hub
pins: 1 PWRCTL3/BATEN3, 2 VDD33, 3 PWRCTL2/BATEN2, 4 PWRCTL1/BATEN1, 5 SDA/SMBDAT, 6 SCL/SMBCLK, 7 SMBUSz, 8 FULLPWRMGMTz/SMBA1, 9 PWRCTL_POL, 10 GANGED/SMBA2/HS_UP, 11 OVERCUR4z, 12 OVERCUR3z, 13 AUTOENz/HS_SUSPEND, 14 OVERCUR1z, 15 OVERCUR2z, 16 USB_VBUS, 17 TEST, 18 GRSTz, 19 VDD, 20 VDD33, 21 USB_DP_UP, 22 USB_DM_UP, 23 RSVD, 24 RSVD, 25 VDD, 26 RSVD, 27 RSVD, 28 NC, 29 XO, 30 XI, 31 VDD33, 32 USB_R1, 33 USB_DP_DN1, 34 USB_DM_DN1, 35 RSVD, 36 RSVD, 37 VDD, 38 RSVD, 39 RSVD, 40 NC, 41 USB_DP_DN2, 42 USB_DM_DN2, 43 RSVD, 44 RSVD, 45 VDD, 46 RSVD, 47 RSVD, 48 VDD33, 49 USB_DP_DN3, 50 USB_DM_DN3, 51 RSVD, 52 RSVD, 53 VDD, 54 RSVD, 55 RSVD, 56 USB_DP_DN4, 57 USB_DM_DN4, 58 RSVD, 59 RSVD, 60 VDD, 61 RSVD, 62 RSVD, 63 VDD, 64 PWRCTL4/BATEN4, 65 VSS

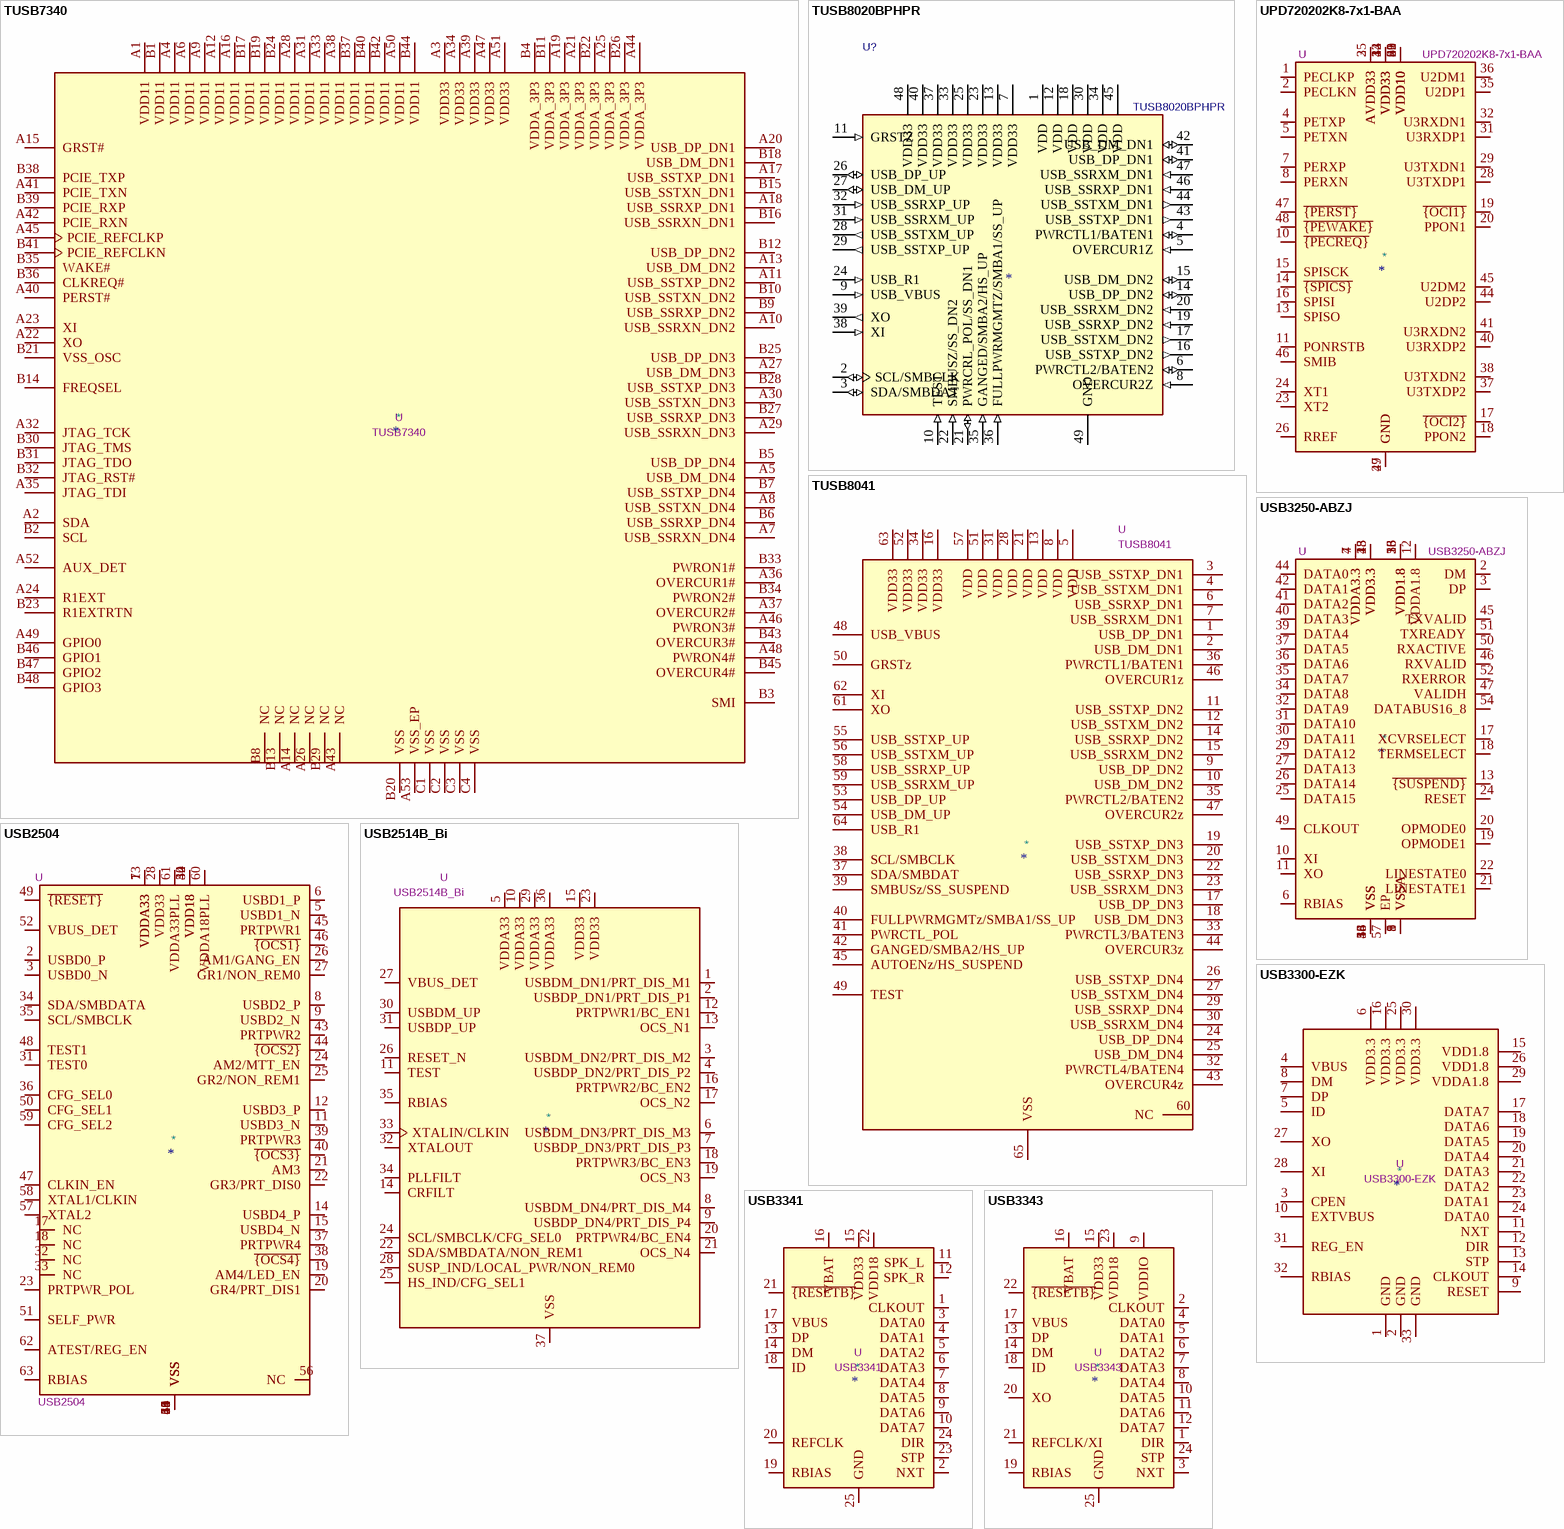
[diagram p6: symbols TUSB7340 to USB3343]

## TUSB7340
designator *  value TUSB7340  Reference: U
USB 3.0 xHCI Host Controller; ki_keywords: USB HUB PCIE; ki_fp_filters: Texas*S?PWQFN?N100*; Footprint: Package_DFN_QFN:Texas_S-PWQFN-N100_EP5.5x5.5mm_ThermalVias; Datasheet: http://www.ti.com/general/docs/lit/getliterature.tsp?genericPartNumber=tusb7320&fileType=pdf; Description_: USB 3.0 xHCI Host Controller
pins: A1 VDD11, A2 SDA, A3 VDD33, A4 VDD11, A5 USB_DM_DN4, A6 VDD11, A7 USB_SSRXN_DN4, A8 USB_SSTXN_DN4, A9 VDD11, A10 USB_SSRXN_DN2, A11 USB_SSTXP_DN2, A12 VDD11, A13 USB_DM_DN2, A14 NC, A15 GRST#, A16 VDD11, A17 USB_SSTXP_DN1, A18 USB_SSRXP_DN1, A19 VDDA_3P3, A20 USB_DP_DN1, A21 VDDA_3P3, A22 XO, A23 XI, A24 R1EXT, A25 VDDA_3P3, A26 NC, A27 USB_DM_DN3, A28 VDD11, A29 USB_SSRXN_DN3, A30 USB_SSTXN_DN3, A31 VDD11, A32 JTAG_TCK, A33 VDD11, A34 VDD33, A35 JTAG_TDI, A36 OVERCUR1#, A37 OVERCUR2#, A38 VDD11, A39 VDD33, A40 PERST#, A41 PCIE_TXN, A42 PCIE_RXN, A43 NC, A44 VDDA_3P3, A45 PCIE_REFCLKP, A46 PWRON3#, A47 VDD33, A48 PWRON4#, A49 GPIO0, A50 VDD11, A51 VDD33, A52 AUX_DET, A53 VSS_EP, B1 VDD11, B2 SCL, B3 SMI, B4 VDDA_3P3, B5 USB_DP_DN4, B6 USB_SSRXP_DN4, B7 USB_SSTXP_DN4, B8 NC, B9 USB_SSRXP_DN2, B10 USB_SSTXN_DN2, B11 VDDA_3P3, B12 USB_DP_DN2, B13 NC, B14 FREQSEL, B15 USB_SSTXN_DN1, B16 USB_SSRXN_DN1, B17 VDD11, B18 USB_DM_DN1, B19 VDD11, B20 VSS, B21 VSS_OSC, B22 VDDA_3P3, B23 R1EXTRTN, B24 VDD11, B25 USB_DP_DN3, B26 VDDA_3P3, B27 USB_SSRXP_DN3, B28 USB_SSTXP_DN3, B29 NC, B30 JTAG_TMS, B31 JTAG_TDO, B32 JTAG_RST#, B33 PWRON1#, B34 PWRON2#, B35 WAKE#, B36 CLKREQ#, B37 VDD11, B38 PCIE_TXP, B39 PCIE_RXP, B40 VDD11, B41 PCIE_REFCLKN, B42 VDD11, B43 OVERCUR3#, B44 VDD11, B45 OVERCUR4#, B46 GPIO1, B47 GPIO2, B48 GPIO3, C1 VSS, C2 VSS, C3 VSS, C4 VSS

## TUSB8020BPHPR
designator U?  value TUSB8020BPHPR
Two-Port SuperSpeed 5.0Gbps USB 3.0 Hub; Manufacturer: Texas Instruments; Manufacturer Lifecycle Status: ACTIVE; Data Rate: 5Gbps; Interface: I2C, SMBus, USB; Max Junction Temperature (Tj): 105°C; Max Supply Voltage: 3.6V; Min Supply Voltage: 990mV; Number of Ports: 2; USB Standard: USB 3.0; Ambient Temperature Range High: 70°C; Category: USB Interface ICs; Contact Plating: Gold; Height: 0m; Lead Free: Lead Free; Length: 7mm; Lifecycle Status: Production; Manufacturer Part Number: TUSB8020BPHPR; Max Operating Temperature: 70°C; Min Operating Temperature: 0°C; Mounting Technology: Surface Mount; Pins: 48; Packaging: Tape & Reel (TR); RoHS: Compliant; Schedule B: 8542390000; Thickness: 1mm; Width: 7mm; Supplier 1: Mouser; Supplier Part Number 1: 595-TUSB8020BPHPR; Supplier Packaging 1: Tape & Reel; Supplier Unit Price 1: $6.66; Supplier Location 1: US; DNP: *
footprint LQFP-48-1EP_7x7mm_P0.5mm_EP3.6x3.6mm
pins: 1 VDD (power), 2 SCL/SMBCLK (io), 3 SDA/SMBDAT (io), 4 PWRCTL1/BATEN1 (io), 5 OVERCUR1Z (in), 6 PWRCTL2/BATEN2 (io), 7 VDD33 (power), 8 OVERCUR2Z (in), 9 USB_VBUS (in), 10 TEST (in), 11 GRSTZ (in), 12 VDD (power) hidden, 12 VDD (power), 13 VDD33 (power) hidden, 13 VDD33 (power), 14 USB_DP_DN2 (io), 15 USB_DM_DN2 (io), 16 USB_SSTXP_DN2 (out), 17 USB_SSTXM_DN2 (out), 18 VDD (power) hidden, 18 VDD (power), 19 USB_SSRXP_DN2 (in), 20 USB_SSRXM_DN2 (in), 21 PWRCRL_POL/SS_DN1 (io), 22 SMBUSZ/SS_DN2 (in), 23 VDD33 (power) hidden, 23 VDD33 (power), 24 USB_R1 (in), 25 VDD33 (power) hidden, 25 VDD33 (power), 26 USB_DP_UP (io), 27 USB_DM_UP (io), 28 USB_SSTXM_UP (out), 29 USB_SSTXP_UP (out), 30 VDD (power) hidden, 30 VDD (power), 31 USB_SSRXM_UP (in), 32 USB_SSRXP_UP (in), 33 VDD33 (power) hidden, 33 VDD33 (power), 34 VDD (power) hidden, 34 VDD (power), 35 GANGED/SMBA2/HS_UP (in), 36 FULLPWRMGMTZ/SMBA1/SS_UP (in), 37 VDD33 (power) hidden, 37 VDD33 (power), 38 XI (in), 39 XO (out), 40 VDD33 (power) hidden, 40 VDD33 (power), 41 USB_DP_DN1 (io), 42 USB_DM_DN1 (io), 43 USB_SSTXP_DN1 (out), 44 USB_SSTXM_DN1 (out), 45 VDD (power) hidden, 45 VDD (power), 46 USB_SSRXP_DN1 (in), 47 USB_SSRXM_DN1 (in), 48 VDD33 (power) hidden, 48 VDD33 (power), 49 GND (power)

## TUSB8041
designator *  value TUSB8041  Reference: U
four port USB 3.0 Hub; ki_fp_filters: QFN*9x9mm*P0.5mm*; Footprint: Package_DFN_QFN:QFN-64-1EP_9x9mm_P0.5mm_EP6x6mm_ThermalVias; Datasheet: http://www.ti.com/lit/ds/symlink/tusb8041.pdf; Description_: four port USB 3.0 Hub; ki_keywords: USB3.0 hub
pins: 1 USB_DP_DN1, 2 USB_DM_DN1, 3 USB_SSTXP_DN1, 4 USB_SSTXM_DN1, 5 VDD, 6 USB_SSRXP_DN1, 7 USB_SSRXM_DN1, 8 VDD, 9 USB_DP_DN2, 10 USB_DM_DN2, 11 USB_SSTXP_DN2, 12 USB_SSTXM_DN2, 13 VDD, 14 USB_SSRXP_DN2, 15 USB_SSRXM_DN2, 16 VDD33, 17 USB_DP_DN3, 18 USB_DM_DN3, 19 USB_SSTXP_DN3, 20 USB_SSTXM_DN3, 21 VDD, 22 USB_SSRXP_DN3, 23 USB_SSRXM_DN3, 24 USB_DP_DN4, 25 USB_DM_DN4, 26 USB_SSTXP_DN4, 27 USB_SSTXM_DN4, 28 VDD, 29 USB_SSRXP_DN4, 30 USB_SSRXM_DN4, 31 VDD, 32 PWRCTL4/BATEN4, 33 PWRCTL3/BATEN3, 34 VDD33, 35 PWRCTL2/BATEN2, 36 PWRCTL1/BATEN1, 37 SDA/SMBDAT, 38 SCL/SMBCLK, 39 SMBUSz/SS_SUSPEND, 40 FULLPWRMGMTz/SMBA1/SS_UP, 41 PWRCTL_POL, 42 GANGED/SMBA2/HS_UP, 43 OVERCUR4z, 44 OVERCUR3z, 45 AUTOENz/HS_SUSPEND, 46 OVERCUR1z, 47 OVERCUR2z, 48 USB_VBUS, 49 TEST, 50 GRSTz, 51 VDD, 52 VDD33, 53 USB_DP_UP, 54 USB_DM_UP, 55 USB_SSTXP_UP, 56 USB_SSTXM_UP, 57 VDD, 58 USB_SSRXP_UP, 59 USB_SSRXM_UP, 60 NC, 61 XO, 62 XI, 63 VDD33, 64 USB_R1, 65 VSS

## UPD720202K8-7x1-BAA
designator *  value UPD720202K8-7x1-BAA  Reference: U
PCIe to USB 3.0 Host Controller, 2 ports, QFN-48; ki_keywords: PCIe USB 3.0; ki_fp_filters: QFN*1EP*7x7mm*P0.5mm*EP5.7x5.7mm*; Footprint: Package_DFN_QFN:QFN-48-1EP_7x7mm_P0.5mm_EP5.7x5.7mm; Datasheet: https://www.renesas.com/us/en/document/dst/upd720201upd720202-datasheet; Description_: PCIe to USB 3.0 Host Controller, 2 ports, QFN-48
pins: 1 PECLKP, 2 PECLKN, 3 AVDD33, 4 PETXP, 5 PETXN, 6 VDD10, 7 PERXP, 8 PERXN, 9 VDD10, 10 ~{{PECREQ}}, 11 PONRSTB, 12 VDD33, 13 SPISO, 14 ~{{SPICS}}, 15 SPISCK, 16 SPISI, 17 ~{{OCI2}}, 18 PPON2, 19 ~{{OCI1}}, 20 PPON1, 21 VDD10, 22 VDD33, 23 XT2, 24 XT1, 25 AVDD33, 26 RREF, 27 GND, 28 U3TXDP1, 29 U3TXDN1, 30 VDD10, 31 U3RXDP1, 32 U3RXDN1, 33 VDD10, 34 VDD33, 35 U2DP1, 36 U2DM1, 37 U3TXDP2, 38 U3TXDN2, 39 VDD10, 40 U3RXDP2, 41 U3RXDN2, 42 VDD10, 43 VDD33, 44 U2DP2, 45 U2DM2, 46 SMIB, 47 ~{{PERST}}, 48 ~{{PEWAKE}}, 49 GND

## USB2504
designator *  value USB2504  Reference: U
USB 2.0 4-Port Hub Hi-Speed Hub Controller; ki_keywords: USB2.0 Hi-Speed-USB-Hub Hub-Controller; ki_fp_filters: LQFP*10x10mm*P0.5mm*; Footprint: Package_QFP:LQFP-64_10x10mm_P0.5mm; Datasheet: https://ww1.microchip.com/downloads/en/DeviceDoc/00002250A.pdf; Description_: USB 2.0 4-Port Hub Hi-Speed Hub Controller
pins: 1 VDDA33, 2 USBD0_P, 3 USBD0_N, 4 VSS, 5 USBD1_N, 6 USBD1_P, 7 VDDA33, 8 USBD2_P, 9 USBD2_N, 10 VSS, 11 USBD3_N, 12 USBD3_P, 13 VDDA33, 14 USBD4_P, 15 USBD4_N, 16 VSS, 17 NC, 18 NC, 19 AM4/LED_EN, 20 GR4/PRT_DIS1, 21 AM3, 22 GR3/PRT_DIS0, 23 PRTPWR_POL, 24 AM2/MTT_EN, 25 GR2/NON_REM1, 26 AM1/GANG_EN, 27 GR1/NON_REM0, 28 VDD33, 29 VSS, 30 VDD18, 31 TEST0, 32 NC, 33 NC, 34 SDA/SMBDATA, 35 SCL/SMBCLK, 36 CFG_SEL0, 37 PRTPWR4, 38 ~{{OCS4}}, 39 PRTPWR3, 40 ~{{OCS3}}, 41 VSS, 42 VDD18, 43 PRTPWR2, 44 ~{{OCS2}}, 45 PRTPWR1, 46 ~{{OCS1}}, 47 CLKIN_EN, 48 TEST1, 49 ~{{RESET}}, 50 CFG_SEL1, 51 SELF_PWR, 52 VBUS_DET, 53 VSS, 54 VDD18, 55 VSS, 56 NC, 57 XTAL2, 58 XTAL1/CLKIN, 59 CFG_SEL2, 60 VDDA18PLL, 61 VDDA33PLL, 62 ATEST/REG_EN, 63 RBIAS, 64 VSS

## USB2514B_Bi
designator *  value USB2514B_Bi  Reference: U
USB 2.0 Hi-Speed Hub Controller; ki_keywords: USB2.0 Hi-Speed-USB-Hub Hub-Controller; ki_fp_filters: QFN*6x6mm*P0.5mm*; Footprint: Package_DFN_QFN:QFN-36-1EP_6x6mm_P0.5mm_EP3.7x3.7mm; Datasheet: http://ww1.microchip.com/downloads/en/DeviceDoc/00001692C.pdf; Description_: USB 2.0 Hi-Speed Hub Controller
pins: 1 USBDM_DN1/PRT_DIS_M1, 2 USBDP_DN1/PRT_DIS_P1, 3 USBDM_DN2/PRT_DIS_M2, 4 USBDP_DN2/PRT_DIS_P2, 5 VDDA33, 6 USBDM_DN3/PRT_DIS_M3, 7 USBDP_DN3/PRT_DIS_P3, 8 USBDM_DN4/PRT_DIS_M4, 9 USBDP_DN4/PRT_DIS_P4, 10 VDDA33, 11 TEST, 12 PRTPWR1/BC_EN1, 13 OCS_N1, 14 CRFILT, 15 VDD33, 16 PRTPWR2/BC_EN2, 17 OCS_N2, 18 PRTPWR3/BC_EN3, 19 OCS_N3, 20 PRTPWR4/BC_EN4, 21 OCS_N4, 22 SDA/SMBDATA/NON_REM1, 23 VDD33, 24 SCL/SMBCLK/CFG_SEL0, 25 HS_IND/CFG_SEL1, 26 RESET_N, 27 VBUS_DET, 28 SUSP_IND/LOCAL_PWR/NON_REM0, 29 VDDA33, 30 USBDM_UP, 31 USBDP_UP, 32 XTALOUT, 33 XTALIN/CLKIN, 34 PLLFILT, 35 RBIAS, 36 VDDA33, 37 VSS

## USB3250-ABZJ
designator *  value USB3250-ABZJ  Reference: U
Hi-Speed USB Device Transceiver with UTMI Interface, QFN-56; ki_keywords: HS FS Device USB PHY UTMI; ki_fp_filters: QFN*1EP*8x8mm*P0.5mm*; Footprint: Package_DFN_QFN:QFN-56-1EP_8x8mm_P0.5mm_EP4.3x4.3mm; Datasheet: http://ww1.microchip.com/downloads/en/DeviceDoc/00002142A.pdf; Description_: Hi-Speed USB Device Transceiver with UTMI Interface, QFN-56
pins: 1 VSSA, 2 DM, 3 DP, 4 VDDA3.3, 5 VSSA, 6 RBIAS, 7 VDDA3.3, 8 VSSA, 9 VSSA, 10 XI, 11 XO, 12 VDDA1.8, 13 ~{{SUSPEND}}, 14 VSS, 15 VDD3.3, 16 VDD1.8, 17 XCVRSELECT, 18 TERMSELECT, 19 OPMODE1, 20 OPMODE0, 21 LINESTATE1, 22 LINESTATE0, 23 VDD1.8, 24 RESET, 25 DATA15, 26 DATA14, 27 DATA13, 28 VDD3.3, 29 DATA12, 30 DATA11, 31 DATA10, 32 DATA9, 33 VSS, 34 DATA8, 35 DATA7, 36 DATA6, 37 DATA5, 38 VDD1.8, 39 DATA4, 40 DATA3, 41 DATA2, 42 DATA1, 43 VDD3.3, 44 DATA0, 45 TXVALID, 46 RXVALID, 47 VALIDH, 48 VSS, 49 CLKOUT, 50 RXACTIVE, 51 TXREADY, 52 RXERROR, 53 VDD1.8, 54 DATABUS16_8, 55 VSS, 56 VSS, 57 EP

## USB3300-EZK
designator *  value USB3300-EZK  Reference: U
Hi-Speed USB Host, Device or OTG PHY with ULPI Interface; ki_keywords: USB OTG Hi-Speed PHY ULPI Interface; ki_fp_filters: *QFN*32*1EP*5x5mm*P0.5mm*; Footprint: Package_DFN_QFN:QFN-32-1EP_5x5mm_P0.5mm_EP3.45x3.45mm; Datasheet: http://ww1.microchip.com/downloads/en/DeviceDoc/00001783C.pdf; Description_: Hi-Speed USB Host, Device or OTG PHY with ULPI Interface
pins: 1 GND, 2 GND, 3 CPEN, 4 VBUS, 5 ID, 6 VDD3.3, 7 DP, 8 DM, 9 RESET, 10 EXTVBUS, 11 NXT, 12 DIR, 13 STP, 14 CLKOUT, 15 VDD1.8, 16 VDD3.3, 17 DATA7, 18 DATA6, 19 DATA5, 20 DATA4, 21 DATA3, 22 DATA2, 23 DATA1, 24 DATA0, 25 VDD3.3, 26 VDD1.8, 27 XO, 28 XI, 29 VDDA1.8, 30 VDD3.3, 31 REG_EN, 32 RBIAS, 33 GND

## USB3341
designator *  value USB3341  Reference: U
Hi-Speed USB ULPI Transceiver, QFN-24; ki_fp_filters: QFN*1EP*4x4mm*P0.5mm*; Footprint: Package_DFN_QFN:QFN-24-1EP_4x4mm_P0.5mm_EP2.6x2.6mm; Datasheet: http://ww1.microchip.com/downloads/en/DeviceDoc/334x.pdf; Description_: Hi-Speed USB ULPI Transceiver, QFN-24; ki_keywords: USB ULPI Transceiver
pins: 1 CLKOUT, 2 NXT, 3 DATA0, 4 DATA1, 5 DATA2, 6 DATA3, 7 DATA4, 8 DATA5, 9 DATA6, 10 DATA7, 11 SPK_L, 12 SPK_R, 13 DP, 14 DM, 15 VDD33, 16 VBAT, 17 VBUS, 18 ID, 19 RBIAS, 20 REFCLK, 21 ~{{RESETB}}, 22 VDD18, 23 STP, 24 DIR, 25 GND

## USB3343
designator *  value USB3343  Reference: U
Hi-Speed USB ULPI Transceiver, QFN-24; ki_fp_filters: QFN*1EP*4x4mm*P0.5mm*; Footprint: Package_DFN_QFN:QFN-24-1EP_4x4mm_P0.5mm_EP2.6x2.6mm; Datasheet: http://ww1.microchip.com/downloads/en/DeviceDoc/334x.pdf; Description_: Hi-Speed USB ULPI Transceiver, QFN-24; ki_keywords: USB ULPI Transceiver
pins: 1 DIR, 2 CLKOUT, 3 NXT, 4 DATA0, 5 DATA1, 6 DATA2, 7 DATA3, 8 DATA4, 9 VDDIO, 10 DATA5, 11 DATA6, 12 DATA7, 13 DP, 14 DM, 15 VDD33, 16 VBAT, 17 VBUS, 18 ID, 19 RBIAS, 20 XO, 21 REFCLK/XI, 22 ~{{RESETB}}, 23 VDD18, 24 STP, 25 GND

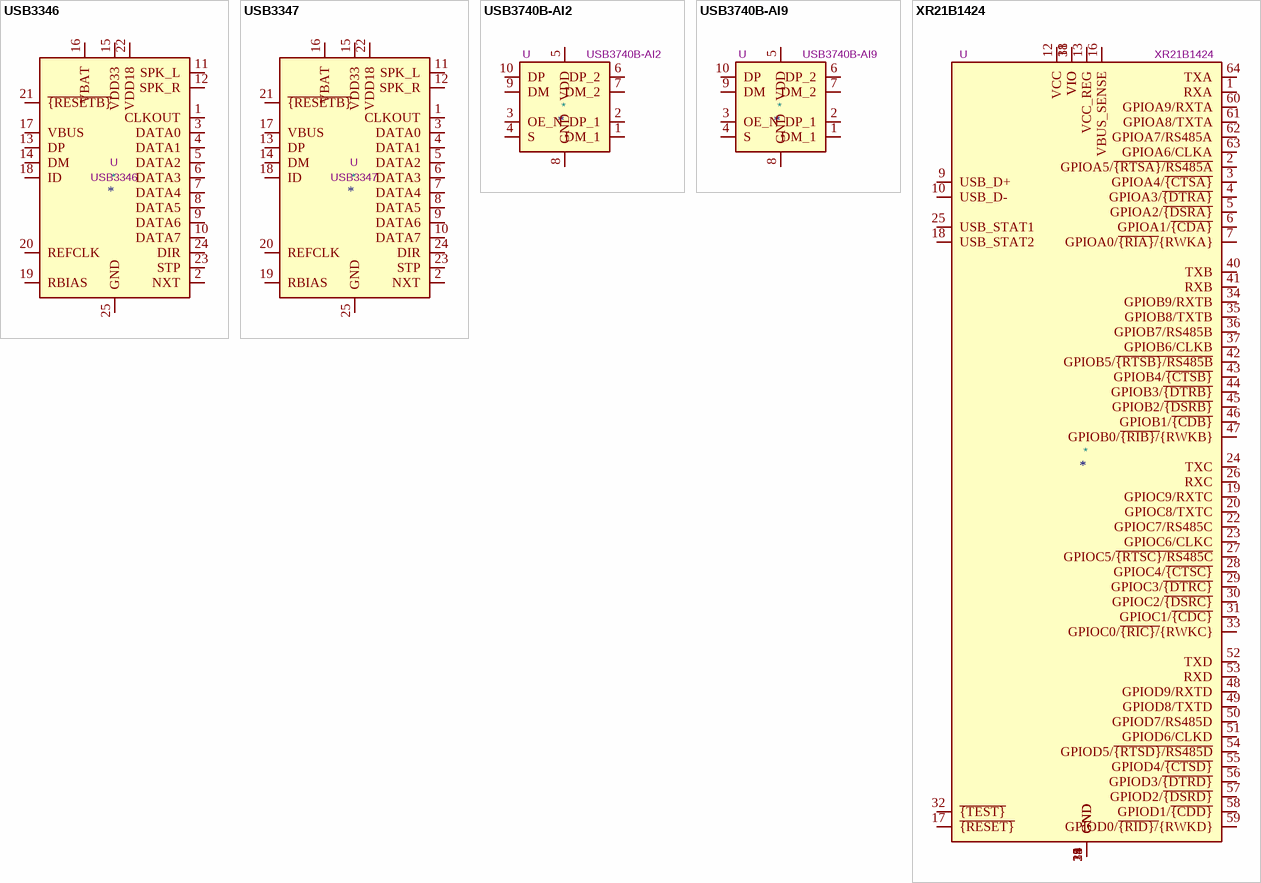
[diagram p7: symbols USB3346 to XR21B1424]

## USB3346
designator *  value USB3346  Reference: U
Hi-Speed USB ULPI Transceiver, QFN-24; ki_fp_filters: QFN*1EP*4x4mm*P0.5mm*; Footprint: Package_DFN_QFN:QFN-24-1EP_4x4mm_P0.5mm_EP2.6x2.6mm; Datasheet: http://ww1.microchip.com/downloads/en/DeviceDoc/334x.pdf; Description_: Hi-Speed USB ULPI Transceiver, QFN-24; ki_keywords: USB ULPI Transceiver
pins: 1 CLKOUT, 2 NXT, 3 DATA0, 4 DATA1, 5 DATA2, 6 DATA3, 7 DATA4, 8 DATA5, 9 DATA6, 10 DATA7, 11 SPK_L, 12 SPK_R, 13 DP, 14 DM, 15 VDD33, 16 VBAT, 17 VBUS, 18 ID, 19 RBIAS, 20 REFCLK, 21 ~{{RESETB}}, 22 VDD18, 23 STP, 24 DIR, 25 GND

## USB3347
designator *  value USB3347  Reference: U
Hi-Speed USB ULPI Transceiver, QFN-24; ki_fp_filters: QFN*1EP*4x4mm*P0.5mm*; Footprint: Package_DFN_QFN:QFN-24-1EP_4x4mm_P0.5mm_EP2.6x2.6mm; Datasheet: http://ww1.microchip.com/downloads/en/DeviceDoc/334x.pdf; Description_: Hi-Speed USB ULPI Transceiver, QFN-24; ki_keywords: USB ULPI Transceiver
pins: 1 CLKOUT, 2 NXT, 3 DATA0, 4 DATA1, 5 DATA2, 6 DATA3, 7 DATA4, 8 DATA5, 9 DATA6, 10 DATA7, 11 SPK_L, 12 SPK_R, 13 DP, 14 DM, 15 VDD33, 16 VBAT, 17 VBUS, 18 ID, 19 RBIAS, 20 REFCLK, 21 ~{{RESETB}}, 22 VDD18, 23 STP, 24 DIR, 25 GND

## USB3740B-AI2
designator *  value USB3740B-AI2  Reference: U
USB 2.0 Switch with ESD Protection, UQFN-10 Pitch 0.4 mm; ki_keywords: USB 2.0 High Speed Switch; ki_fp_filters: UQFN*1.3x1.8mm?P0.4mm* UQFN*1.6x2.1mm?P0.5mm*; Datasheet: http://ww1.microchip.com/downloads/en/DeviceDoc/00001725D.pdf; Description_: USB 2.0 Switch with ESD Protection, UQFN-10 Pitch 0.4 mm
pins: 1 DM_1, 2 DP_1, 3 OE_N, 4 S, 5 VDD, 6 DP_2, 7 DM_2, 8 GND, 9 DM, 10 DP

## USB3740B-AI9
designator *  value USB3740B-AI9  Reference: U
USB 2.0 Switch with ESD Protection, UQFN-10 Pitch 0.5mm; ki_keywords: USB 2.0 High Speed Switch; ki_fp_filters: UQFN*1.3x1.8mm?P0.4mm* UQFN*1.6x2.1mm?P0.5mm*; Datasheet: http://ww1.microchip.com/downloads/en/DeviceDoc/00001725D.pdf; Description_: USB 2.0 Switch with ESD Protection, UQFN-10 Pitch 0.5mm
pins: 1 DM_1, 2 DP_1, 3 OE_N, 4 S, 5 VDD, 6 DP_2, 7 DM_2, 8 GND, 9 DM, 10 DP

## XR21B1424
designator *  value XR21B1424  Reference: U
USB 2.0 up to 12Mbps, Quad Channel USB UART/FIFO, RS485 capability, LQFP-64; ki_keywords: USB Quad UART FIFO; ki_fp_filters: LQFP*10x10mm*P0.5mm*; Footprint: Package_QFP:LQFP-64_10x10mm_P0.5mm; Datasheet: https://assets.maxlinear.com/web/documents/xr21b1424.pdf; Description_: USB 2.0 up to 12Mbps, Quad Channel USB UART/FIFO, RS485 capability, LQFP-64
pins: 1 RXA, 2 GPIOA5/~{{RTSA}/RS485A}, 3 GPIOA4/~{{CTSA}}, 4 GPIOA3/~{{DTRA}}, 5 GPIOA2/~{{DSRA}}, 6 GPIOA1/~{{CDA}}, 7 GPIOA0/~{{RIA}/}{RWKA}, 8 GND, 9 USB_D+, 10 USB_D-, 11 VIO, 12 VCC, 13 VCC_REG, 14 GND, 15 GND, 16 VBUS_SENSE, 17 ~{{RESET}}, 18 USB_STAT2, 19 GPIOC9/RXTC, 20 GPIOC8/TXTC, 21 GND, 22 GPIOC7/RS485C, 23 GPIOC6/CLKC, 24 TXC, 25 USB_STAT1, 26 RXC, 27 GPIOC5/~{{RTSC}/RS485C}, 28 GPIOC4/~{{CTSC}}, 29 GPIOC3/~{{DTRC}}, 30 GPIOC2/~{{DSRC}}, 31 GPIOC1/~{{CDC}}, 32 ~{{TEST}}, 33 GPIOC0/~{{RIC}/}{RWKC}, 34 GPIOB9/RXTB, 35 GPIOB8/TXTB, 36 GPIOB7/RS485B, 37 GPIOB6/CLKB, 38 VIO, 39 GND, 40 TXB, 41 RXB, 42 GPIOB5/~{{RTSB}/RS485B}, 43 GPIOB4/~{{CTSB}}, 44 GPIOB3/~{{DTRB}}, 45 GPIOB2/~{{DSRB}}, 46 GPIOB1/~{{CDB}}, 47 GPIOB0/~{{RIB}/}{RWKB}, 48 GPIOD9/RXTD, 49 GPIOD8/TXTD, 50 GPIOD7/RS485D, 51 GPIOD6/CLKD, 52 TXD, 53 RXD, 54 GPIOD5/~{{RTSD}/RS485D}, 55 GPIOD4/~{{CTSD}}, 56 GPIOD3/~{{DTRD}}, 57 GPIOD2/~{{DSRD}}, 58 GPIOD1/~{{CDD}}, 59 GPIOD0/~{{RID}/}{RWKD}, 60 GPIOA9/RXTA, 61 GPIOA8/TXTA, 62 GPIOA7/RS485A, 63 GPIOA6/CLKA, 64 TXA